# EAGLE library part K9F5608 (library flashmemory)
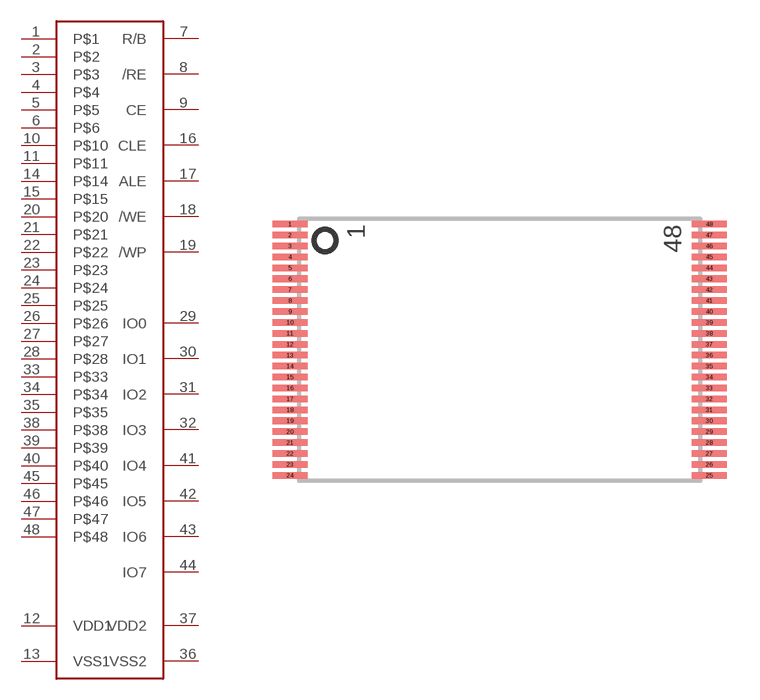
[diagram p0: symbol with the pads of TSOP48; footprint TSOP48]

Designator prefix -

## K9F5608  [TSOP48]
1  P$1  nc
2  P$2  nc
3  P$3  nc
4  P$4  nc
5  P$5  nc
6  P$6  nc
7  R/B  out
8  /RE  in
9  CE  in
10  P$10  nc
11  P$11  nc
12  VDD1  pwr
13  VSS1  pwr
14  P$14  nc
15  P$15  nc
16  CLE  in
17  ALE  in
18  /WE  in
19  /WP  in
20  P$20  nc
21  P$21  nc
22  P$22  nc
23  P$23  nc
24  P$24  nc
25  P$25  nc
26  P$26  nc
27  P$27  nc
28  P$28  nc
29  IO0
30  IO1
31  IO2
32  IO3
33  P$33  nc
34  P$34  nc
35  P$35  nc
36  VSS2  pwr
37  VDD2  pwr
38  P$38  nc
39  P$39  nc
40  P$40  nc
41  IO4
42  IO5
43  IO6
44  IO7
45  P$45  nc
46  P$46  nc
47  P$47  nc
48  P$48  nc

## Footprint TSOP48 (pad centres in mm)
Thin Small Outline Package
smd 1.6 x 0.3: 1 -9.6,5.75; 2 -9.6,5.25; 3 -9.6,4.75; 4 -9.6,4.25; 5 -9.6,3.75; 6 -9.6,3.25; 7 -9.6,2.75; 8 -9.6,2.25; 9 -9.6,1.75; 10 -9.6,1.25; 11 -9.6,0.75; 12 -9.6,0.25; 13 -9.6,-0.25; 14 -9.6,-0.75; 15 -9.6,-1.25; 16 -9.6,-1.75; 17 -9.6,-2.25; 18 -9.6,-2.75; 19 -9.6,-3.25; 20 -9.6,-3.75; 21 -9.6,-4.25; 22 -9.6,-4.75; 23 -9.6,-5.25; 24 -9.6,-5.75; 25 9.6,-5.75; 26 9.6,-5.25; 27 9.6,-4.75; 28 9.6,-4.25; 29 9.6,-3.75; 30 9.6,-3.25; 31 9.6,-2.75; 32 9.6,-2.25; 33 9.6,-1.75; 34 9.6,-1.25; 35 9.6,-0.75; 36 9.6,-0.25; 37 9.6,0.25; 38 9.6,0.75; 39 9.6,1.25; 40 9.6,1.75; 41 9.6,2.25; 42 9.6,2.75; 43 9.6,3.25; 44 9.6,3.75; 45 9.6,4.25; 46 9.6,4.75; 47 9.6,5.25; 48 9.6,5.75